# EAGLE library part Q-114807 (library con-erni)
Male Connector SMC-Q 68 contacts Standard Assembly Height Source: http://www.erni.com/DB/PDF-Drawing/SMC/114807.pdf
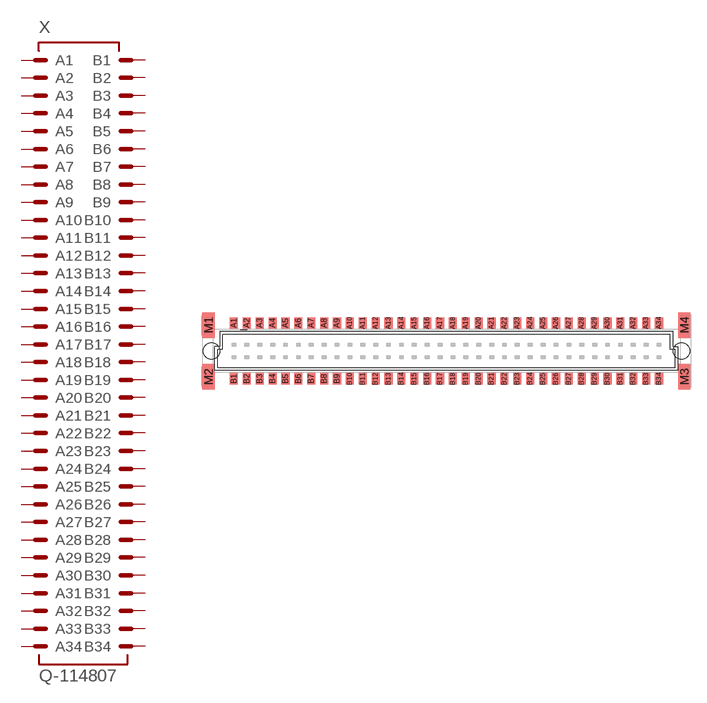
[diagram p3: symbol with the pads of 114807; footprint 114807]

Designator prefix X

## Q-114807 (OC_FARNELL: unknown; OC_NEWARK: unknown)  [114807]
A1  A1  pas
A2  A2  pas
A3  A3  pas
A4  A4  pas
A5  A5  pas
A6  A6  pas
A7  A7  pas
A8  A8  pas
A9  A9  pas
A10  A10  pas
A11  A11  pas
A12  A12  pas
A13  A13  pas
A14  A14  pas
A15  A15  pas
A16  A16  pas
A17  A17  pas
A18  A18  pas
A19  A19  pas
A20  A20  pas
A21  A21  pas
A22  A22  pas
A23  A23  pas
A24  A24  pas
A25  A25  pas
A26  A26  pas
A27  A27  pas
A28  A28  pas
A29  A29  pas
A30  A30  pas
A31  A31  pas
A32  A32  pas
A33  A33  pas
A34  A34  pas
B1  B1  pas
B2  B2  pas
B3  B3  pas
B4  B4  pas
B5  B5  pas
B6  B6  pas
B7  B7  pas
B8  B8  pas
B9  B9  pas
B10  B10  pas
B11  B11  pas
B12  B12  pas
B13  B13  pas
B14  B14  pas
B15  B15  pas
B16  B16  pas
B17  B17  pas
B18  B18  pas
B19  B19  pas
B20  B20  pas
B21  B21  pas
B22  B22  pas
B23  B23  pas
B24  B24  pas
B25  B25  pas
B26  B26  pas
B27  B27  pas
B28  B28  pas
B29  B29  pas
B30  B30  pas
B31  B31  pas
B32  B32  pas
B33  B33  pas
B34  B34  pas

## Footprint 114807 (pad centres in mm)
Male Connector SMC-Q 68 contacts Standard Assembly Height Source: http://www.erni.com/DB/PDF-Drawing/SMC/114807.pdf
smd 0.8 x 1.1: A1 -20.955,2.765; A2 -19.685,2.765; A3 -18.415,2.765; A4 -17.145,2.765; A5 -15.875,2.765; A6 -14.605,2.765; A7 -13.335,2.765; A8 -12.065,2.765; A9 -10.795,2.765; A10 -9.525,2.765; A11 -8.255,2.765; A12 -6.985,2.765; A13 -5.715,2.765; A14 -4.445,2.765; A15 -3.175,2.765; A16 -1.905,2.765; A17 -0.635,2.765; A18 0.635,2.765; A19 1.905,2.765; A20 3.175,2.765; A21 4.445,2.765; A22 5.715,2.765; A23 6.985,2.765; A24 8.255,2.765; A25 9.525,2.765; A26 10.795,2.765; A27 12.065,2.765; A28 13.335,2.765; A29 14.605,2.765; A30 15.875,2.765; A31 17.145,2.765; A32 18.415,2.765; A33 19.685,2.765; A34 20.955,2.765; B1 -20.955,-2.74; B2 -19.685,-2.74; B3 -18.415,-2.74; B4 -17.145,-2.74; B5 -15.875,-2.74; B6 -14.605,-2.74; B7 -13.335,-2.74; B8 -12.065,-2.74; B9 -10.795,-2.74; B10 -9.525,-2.74; B11 -8.255,-2.74; B12 -6.985,-2.74; B13 -5.715,-2.74; B14 -4.445,-2.74; B15 -3.175,-2.74; B16 -1.905,-2.74; B17 -0.635,-2.74; B18 0.635,-2.74; B19 1.905,-2.74; B20 3.175,-2.74; B21 4.445,-2.74; B22 5.715,-2.74; B23 6.985,-2.74; B24 8.255,-2.74; B25 9.525,-2.74; B26 10.795,-2.74; B27 12.065,-2.74; B28 13.335,-2.74; B29 14.605,-2.74; B30 15.875,-2.74; B31 17.145,-2.74; B32 18.415,-2.74; B33 19.685,-2.74; B34 20.955,-2.74
smd 1.2 x 2.5: M1 -23.46,2.55; M2 -23.46,-2.55; M3 23.46,-2.55; M4 23.46,2.55
hole 1.6 at -23.165,0
hole 1.6 at 23.165,0